# EAGLE library part 1747981 (library Conversor+5V)
EMBOSS PACKAGE HDMI CONNECTOR Datasheet <https://www.te.com/commerce/DocumentDelivery/DDEController?Action=showdoc&DocId=Customer+Drawing%7F1747981%7FF8%7Fpdf%7FEnglish%7FENG_CD_1747981_F8.pdf%7F1-1747981-1>
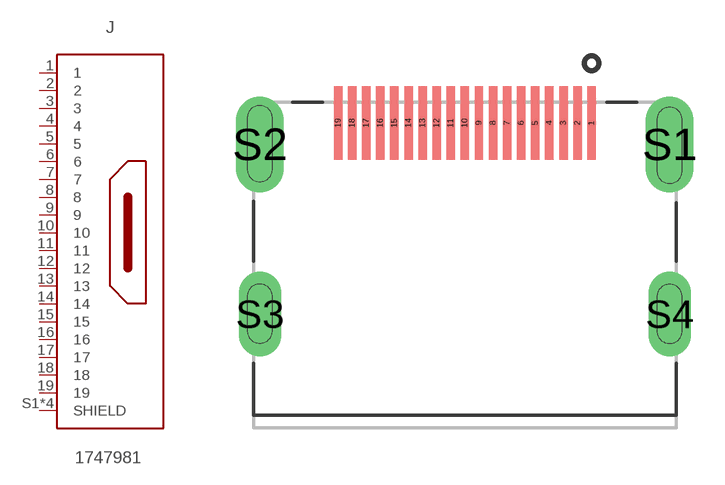
[diagram p14: symbol with the pads of 1747981-1; footprint 1747981-1]

Designator prefix J

## 1747981 (CATEGORY: HDMI, Displayport & DVI Connectors; DESCRIPTION: HDMI, Displayport & DVI Connectors HDMI 19P HDR R/A SMT; MANUFACTURER: TE Connectivity; MPN: 1747981-1; OPERATING_TEMPERATURE: -25°C ~ 70°C; PART_STATUS: ACTIVE; ROHS_COMPLIANCE: Compliant; SERIES: 1747981; SUB_CATEGORY: Audio & Video Connectors; TYPE: HDMI Connector; VALUE: 1747981-1)  [1747981-1]
1  1  pas
2  2  pas
3  3  pas
4  4  pas
5  5  pas
6  6  pas
7  7  pas
8  8  pas
9  9  pas
10  10  pas
11  11  pas
12  12  pas
13  13  pas
14  14  pas
15  15  pas
16  16  pas
17  17  pas
18  18  pas
19  19  pas
S1  SHIELD  nc
S2  SHIELD  nc
S3  SHIELD  nc
S4  SHIELD  nc

## Footprint 1747981-1 (pad centres in mm)
smd 0.3 x 2.6: 1 4.5,4.57; 2 4,4.57; 3 3.5,4.57; 4 3,4.57; 5 2.5,4.57; 6 2,4.57; 7 1.5,4.57; 8 1,4.57; 9 0.5,4.57; 10 0,4.57; 11 -0.5,4.57; 12 -1,4.57; 13 -1.5,4.57; 14 -2,4.57; 15 -2.5,4.57; 16 -3,4.57; 17 -3.5,4.57; 18 -4,4.57; 19 -4.5,4.57
drill 0.95 pad 1.7 long: S1 7.275,3.81; S2 -7.275,3.81
drill 0.95 pad 1.5 long: S3 -7.275,-2.2; S4 7.275,-2.2